# Altium schematic symbol library CustomLib.SchLib: 2 symbols
Pins are listed as number, name and electrical type; pins without a type are passive.

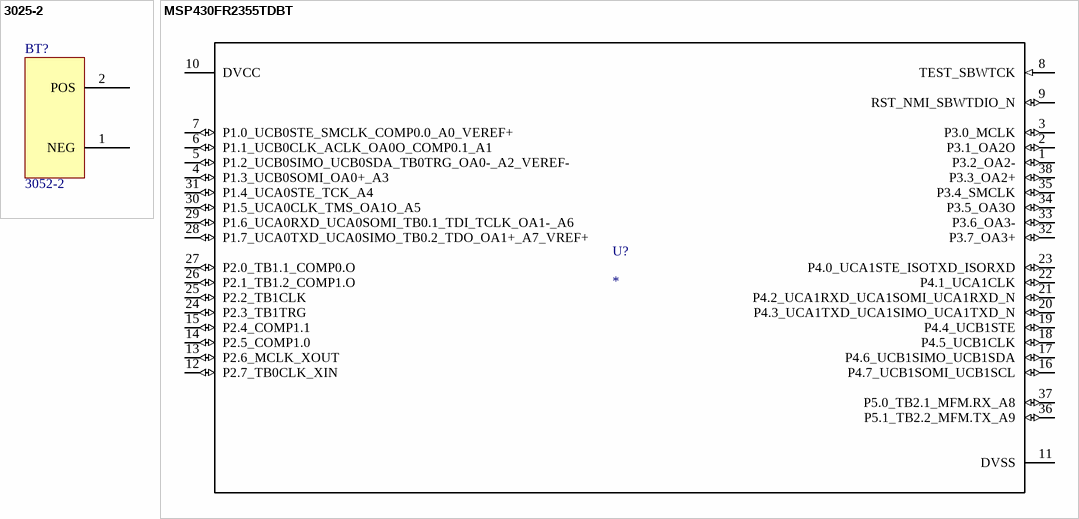
[diagram p0: symbols 3025-2 to MSP430FR2355TDBT]

## 3025-2
designator BT?, comment 3052-2
BATTERY RETNR COIN 2 CELL PC PIN; Mfr 1: Keystone Electronics; Mfr 1 PN: 3025-2
footprint 3025-2 (BATTERY RETNR COIN 2 CELL PC PIN)
pins: 1 NEG, 2 POS

## MSP430FR2355TDBT
designator U?
No Description Available; Manufacturer: Texas Instruments; PartNumber: MSP430FR2355IDBT; RefDes: RefDes; Type: DEV; Value: Value; Copyright: Copyright (C) 2018 Accelerated Designs. All rights reserved
footprint DBT0038A_N
pins: 1 P3.2_OA2- (io), 2 P3.1_OA2O (io), 3 P3.0_MCLK (io), 4 P1.3_UCB0SOMI_OA0+_A3 (io), 5 P1.2_UCB0SIMO_UCB0SDA_TB0TRG_OA0-_A2_VEREF- (io), 6 P1.1_UCB0CLK_ACLK_OA0O_COMP0.1_A1 (io), 7 P1.0_UCB0STE_SMCLK_COMP0.0_A0_VEREF+ (io), 8 TEST_SBWTCK (in), 9 RST_NMI_SBWTDIO_N (io), 10 DVCC (power), 11 DVSS (power), 12 P2.7_TB0CLK_XIN (io), 13 P2.6_MCLK_XOUT (io), 14 P2.5_COMP1.0 (io), 15 P2.4_COMP1.1 (io), 16 P4.7_UCB1SOMI_UCB1SCL (io), 17 P4.6_UCB1SIMO_UCB1SDA (io), 18 P4.5_UCB1CLK (io), 19 P4.4_UCB1STE (io), 20 P4.3_UCA1TXD_UCA1SIMO_UCA1TXD_N (io), 21 P4.2_UCA1RXD_UCA1SOMI_UCA1RXD_N (io), 22 P4.1_UCA1CLK (io), 23 P4.0_UCA1STE_ISOTXD_ISORXD (io), 24 P2.3_TB1TRG (io), 25 P2.2_TB1CLK (io), 26 P2.1_TB1.2_COMP1.O (io), 27 P2.0_TB1.1_COMP0.O (io), 28 P1.7_UCA0TXD_UCA0SIMO_TB0.2_TDO_OA1+_A7_VREF+ (io), 29 P1.6_UCA0RXD_UCA0SOMI_TB0.1_TDI_TCLK_OA1-_A6 (io), 30 P1.5_UCA0CLK_TMS_OA1O_A5 (io), 31 P1.4_UCA0STE_TCK_A4 (io), 32 P3.7_OA3+ (io), 33 P3.6_OA3- (io), 34 P3.5_OA3O (io), 35 P3.4_SMCLK (io), 36 P5.1_TB2.2_MFM.TX_A9 (io), 37 P5.0_TB2.1_MFM.RX_A8 (io), 38 P3.3_OA2+ (io)